# Altium footprint library Crystals.PcbLib: 7 footprints
Each footprint in its own frame and in the unit in brackets; x right, y up, seen from the top. Pads: shape width x height; smd on the part's side, far side on the other; paste and mask are expansions set on the pad; w line width, h text height; cw(c..) or ccw(c..) is an arc to the next point about the centre after c.
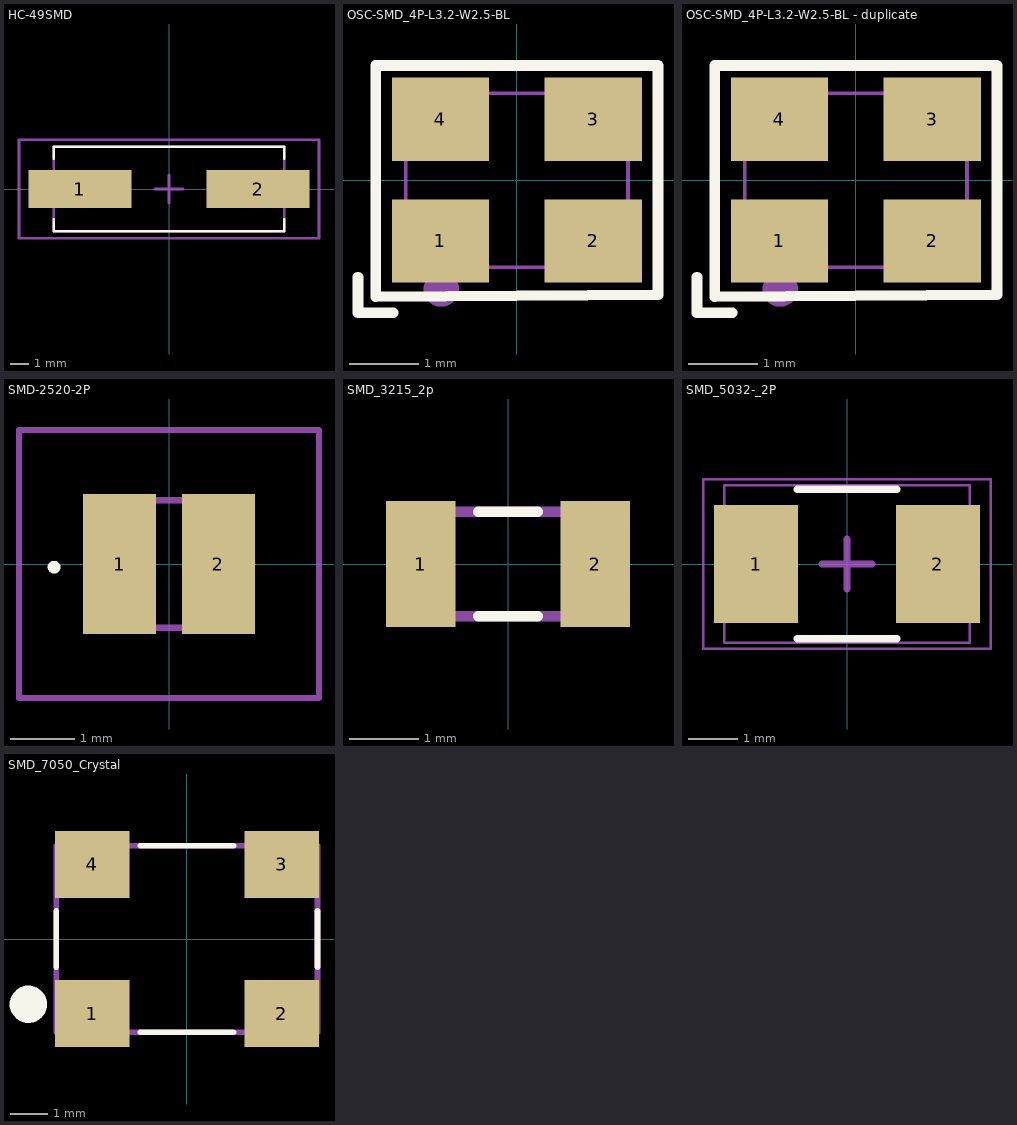
[diagram p0: the footprints below, top view; thin cyan lines are the x and y axes]

## HC-49SMD [mm]
pads (2):
  rect 5.5x2 smd: 1(-4.75,0) 2(4.75,0)
Top Overlay:
  lines w0.152: -6.15,-1.625 -6.15,-2.25 0,-2.25 6.15,-2.25 6.15,-1.625 ; -6.15,1.625 -6.15,2.25 0,2.25 6.15,2.25 6.15,1.625
Mechanical 13:
  lines w0.152: -6.15,-2.25 -6.15,2.25 6.15,2.25 6.15,-2.25 -6.15,-2.25
Mechanical 15:
  lines w0.152: -0.75,0 0,0 ; 0,-0.75 0,0 ; 0,0.75 0,0 ; 0.75,0 0,0 ; -8,-2.625 0,-2.625 8,-2.625 8,0 8,2.625 0,2.625 -8,2.625 -8,0 -8,-2.625
3D body "User Library-HC49_SMD.step": height 5.18, standoff 0, extent -6.15,-2.25 6.15,2.25

## OSC-SMD_4P-L3.2-W2.5-BL [mm]
pads (4):
  rect 1.4x1.2 smd: 1(-1.1,-0.875) 2(1.1,-0.875) 3(1.1,0.875) 4(-1.1,0.875)
Top Overlay:
  lines w0.152: -2.286,-1.397 -2.286,-1.905 -1.778,-1.905 ; -2.029,-1.679 -2.029,1.651 2.032,1.651 2.032,0 2.032,-1.651 -2.029,-1.679
Mechanical 6:
  circle w0.254: c-1.088,-1.567 r0.127
  region: -1.486,-0.428 -1.45,-0.428 -1.45,-1.004 -1.486,-1.004
  region: -1.522,-0.428 -1.486,-0.428 -1.486,-1.004 -1.522,-1.004
  region: -1.558,-0.428 -1.522,-0.428 -1.522,-1.004 -1.558,-1.004
  region: -1.594,-0.464 -1.558,-0.464 -1.558,-1.004 -1.594,-1.004
  region: -1.63,-0.464 -1.594,-0.464 -1.594,-0.572 -1.63,-0.572
  region: -1.666,-0.5 -1.63,-0.5 -1.63,-0.608 -1.666,-0.608
  region: -1.702,-0.536 -1.666,-0.536 -1.666,-0.608 -1.702,-0.608
  region: -1.738,-0.536 -1.702,-0.536 -1.702,-0.608 -1.738,-0.608
Mechanical 15:
  region: -1.54,-1.25 -1.54,-1.225 -1.575,-1.19 -1.625,-1.19 -1.66,-1.225 -1.66,-1.25 -1.66,-1.275 -1.625,-1.31 -1.575,-1.31 -1.54,-1.275 -1.54,-1.25
  region: 0.6,1.249 1.5,1.249 1.5,0.449 0.6,0.449
  region: -1.5,1.249 -0.6,1.249 -0.6,0.449 -1.5,0.449
  region: -1.5,-0.449 -0.6,-0.449 -0.6,-1.249 -1.5,-1.249
  region: 0.6,-0.449 1.5,-0.449 1.5,-1.249 0.6,-1.249
  lines w0.051: -1.6,-1.25 -1.6,1.25 1.6,1.25 1.6,-1.25 -1.6,-1.25

## OSC-SMD_4P-L3.2-W2.5-BL - duplicate [mm]
pads (4):
  rect 1.4x1.2 smd: 1(-1.1,-0.875) 2(1.1,-0.875) 3(1.1,0.875) 4(-1.1,0.875)
Top Overlay:
  lines w0.152: -2.286,-1.397 -2.286,-1.905 -1.778,-1.905 ; -2.029,-1.679 -2.029,1.651 2.032,1.651 2.032,0 2.032,-1.651 -2.029,-1.679
Mechanical 6:
  circle w0.254: c-1.088,-1.567 r0.127
  region: -1.486,-0.428 -1.45,-0.428 -1.45,-1.004 -1.486,-1.004
  region: -1.522,-0.428 -1.486,-0.428 -1.486,-1.004 -1.522,-1.004
  region: -1.558,-0.428 -1.522,-0.428 -1.522,-1.004 -1.558,-1.004
  region: -1.594,-0.464 -1.558,-0.464 -1.558,-1.004 -1.594,-1.004
  region: -1.63,-0.464 -1.594,-0.464 -1.594,-0.572 -1.63,-0.572
  region: -1.666,-0.5 -1.63,-0.5 -1.63,-0.608 -1.666,-0.608
  region: -1.702,-0.536 -1.666,-0.536 -1.666,-0.608 -1.702,-0.608
  region: -1.738,-0.536 -1.702,-0.536 -1.702,-0.608 -1.738,-0.608
Mechanical 15:
  region: -1.54,-1.25 -1.54,-1.225 -1.575,-1.191 -1.624,-1.191 -1.659,-1.225 -1.66,-1.25 -1.659,-1.274 -1.624,-1.309 -1.576,-1.309 -1.541,-1.274 -1.54,-1.25
  region: 0.6,1.249 1.5,1.249 1.5,0.449 0.6,0.449
  region: -1.5,1.249 -0.6,1.249 -0.6,0.449 -1.5,0.449
  region: -1.5,-0.449 -0.6,-0.449 -0.6,-1.249 -1.5,-1.249
  region: 0.6,-0.449 1.5,-0.449 1.5,-1.249 0.6,-1.249
  lines w0.051: -1.6,-1.25 -1.6,1.25 1.6,1.25 1.6,-1.25 -1.6,-1.25

## SMD-2520-2P [mm]
pads (2):
  rect 1.15x2.2 smd: 1(-0.775,0) 2(0.775,0)
Top Overlay:
  lines w0.1: -1.8,-0.1 cw(c-1.8,-0.05) -1.8,0 cw(c-1.8,-0.05) -1.8,-0.1
Mechanical 13:
  lines w0.1: -1.25,-1 1.25,-1 1.25,1 -1.25,1 -1.25,-1
Mechanical 15:
  lines w0.1: -2.35,-2.1 2.35,-2.1 2.35,2.1 -2.35,2.1 -2.35,-2.1

## SMD_3215_2p [mm]
pads (2):
  rect 1x1.8 smd: 1(-1.25,0) 2(1.25,0)
Top Overlay:
  lines w0.152: -0.425,-0.75 0,-0.75 0.425,-0.75 ; -0.425,0.75 0,0.75 0.425,0.75
Mechanical 5:
  lines w0.152: -1.6,-0.75 -1.6,0 -1.6,0.75 0,0.75 1.6,0.75 1.6,0 1.6,-0.75 0,-0.75 -1.6,-0.75
3D body "User Library-NDK_NX3215SA.STEP": height 0.82, standoff 0.02, extent -1.6,-0.75 1.6,0.75

## SMD_5032-_2P [mm]
pads (2):
  rect 1.7x2.4 smd: 1(-1.85,0) 2(1.85,0)
Top Overlay:
  lines w0.152: -1.016,-1.524 1.016,-1.524 ; -1.016,1.524 1.016,1.524
Mechanical 13:
  lines w0.05: -2.5,-1.6 -2.5,0 -2.5,1.6 0,1.6 2.5,1.6 2.5,0 2.5,-1.6 0,-1.6 -2.5,-1.6
Mechanical 15:
  lines w0.05: -2.921,-1.727 -2.921,0 -2.921,1.727 0,1.727 2.921,1.727 2.921,0 2.921,-1.727 0,-1.727 -2.921,-1.727
  lines w0.152: -0.508,0 0.508,0 ; 0,-0.508 0,0.508
3D body "SMD_5032.stp": height 1.31, standoff 0, extent -2.5,-1.6 2.5,1.6

## SMD_7050_Crystal [mm]
pads (4):
  rect 2x1.8 smd: 1(-2.54,-2) 2(2.54,-2) 3(2.54,2) 4(-2.54,2)
Top Overlay:
  circle w0.5: c-4.25,-1.75 r0.25
  lines w0.152: -3.5,-0.75 -3.5,0 -3.5,0.75 ; -1.25,-2.5 0,-2.5 1.25,-2.5 ; -1.25,2.5 0,2.5 1.25,2.5 ; 3.5,-0.75 3.5,0 3.5,0.75
Mechanical 13:
  lines w0.152: -3.5,-2.5 0,-2.5 3.5,-2.5 3.5,0 3.5,2.5 0,2.5 -3.5,2.5 -3.5,0 -3.5,-2.5
3D body "ECS-96SMF.STEP": height 1.5, standoff 0, extent -3.5,-2.5 3.5,2.5